# Altium schematic symbol library ESender_SCH_Lib.SchLib: 87 symbols (part 2 of 2)
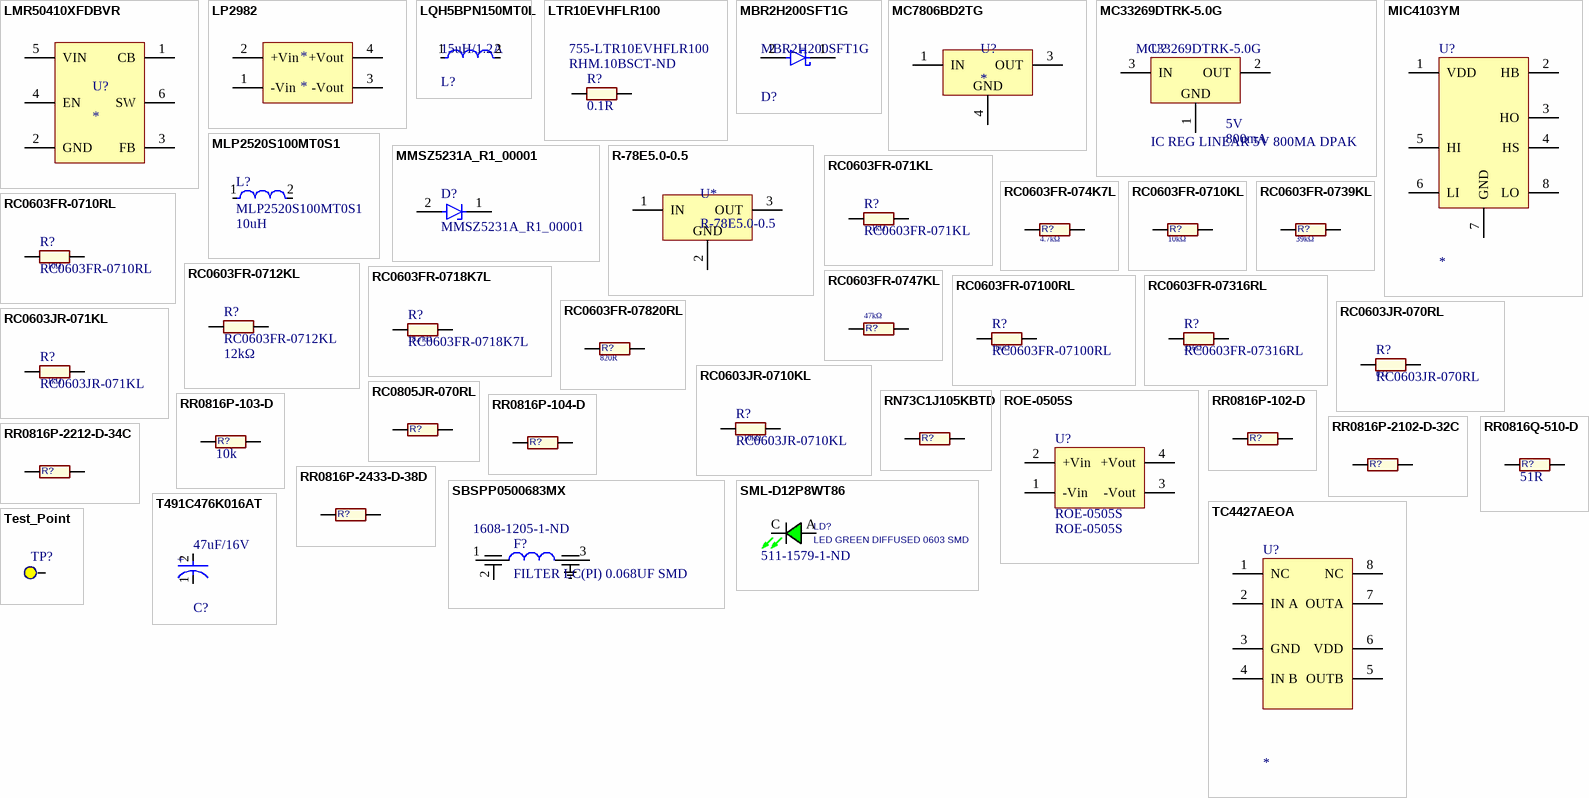
[diagram p3: symbols LMR50410XFDBVR to Test_Point]

## RC0603FR-0710KL
designator R?  Resistance: 10kΩ  (hidden comment: RC0603FR-0710KL)
10 kOhms ±1% 0.1W, 1/10W Chip Resistor 0603 (1608 Metric) Moisture Resistant Thick Film; Manufacturer: Yageo; Max Power Dissipation: 100mW; Temperature Coefficient: 100ppm/°C; Voltage Rating: 75V; Voltage Rating (DC): 50V; Case Code (Imperial): 0603; Case Code (Metric): 1608; Case/Package: 0603; Category: Chip SMD Resistors; Construction: Rectangular; Depth: 0.8mm; Features: Moisture Resistant; Height: 0.45mm; Lead Free: Lead Free; Lead Pitch: 0.3mm; Length: 1.6mm; Max Operating Temperature: 155°C; Military Standard: Not; Min Operating Temperature: -55°C; Number of Pins: 2; Number of Terminations: 2; Packaging: Tape and Reel; Power Rating: 100mW; REACH SVHC: Unknown; Resistance Tolerance: 1%; Resistor Type: Thick Film; RoHS Compliant: Yes; Series: RC; Size Code: 0603; Termination: SMD/SMT; Tolerance: 1%; Weight: 7.1E-05oz; Width: 0.8mm; Supplier 1: Digi-Key; Supplier Part Number 1: 311-10.0KHRCT-ND; Supplier Packaging 1: Cut Tape; Supplier Unit Price 1: $0.10; Supplier Location 1: US; Supplier 2: Mouser; Supplier Part Number 2: 603-RC0603FR-0710KL; Supplier Packaging 2: Tape & Reel; Supplier Unit Price 2: $0.10; Supplier Location 2: US; Manufacturer Part Number: RC0603FR-0710KL
footprint RES 0603_1608 (Chip Resistor, 2-Leads, Body 1.60x0.80mm, IPC Medium Density)
pins: 1, 2

## RC0603FR-0710RL
designator R?  Resistance: 10Ω
10 Ohms ±1% 0.1W, 1/10W Chip Resistor 0603 (1608 Metric) Moisture Resistant Thick Film; Manufacturer: Yageo; Max Power Dissipation: 100mW; Temperature Coefficient: 200ppm/°C; Voltage Rating: 50V; Case Code (Imperial): 0603; Case Code (Metric): 1608; Case/Package: 0603; Category: Chip SMD Resistors; Construction: Rectangular; Contact Plating: Tin,Matte; Depth: 0.8mm; Features: Moisture Resistant; Height: 0.45mm; Lead Free: Lead Free; Length: 1.6mm; Max Operating Temperature: 155°C; Military Standard: Not; Min Operating Temperature: -55°C; Number of Terminations: 2; Packaging: Tape and Reel; Power Rating: 100mW; Radiation Hardening: No; REACH SVHC: No SVHC; Resistance Tolerance: 1%; Resistor Type: Thick Film; RoHS Compliant: Yes; Series: RC; Size Code: 0603; Technology: THICK FILM; Termination: SMD/SMT; Tolerance: 1%; Supplier 1: Mouser; Supplier Part Number 1: 603-RC0603FR-0710RL; Supplier Packaging 1: Tape & Reel; Supplier Unit Price 1: $0.10; Supplier Location 1: US; Supplier 2: Farnell; Supplier Part Number 2: 9238247; Supplier Packaging 2: Cut Tape; Supplier Unit Price 2: £0.032; Supplier Location 2: GB; Manufacturer Part Number: RC0603FR-0710RL; Number of Pins: 2; Voltage Rating (DC): 50V; Width: 0.8mm
footprint RES 0603_1608 (Chip Resistor, 2-Leads, Body 1.60x0.80mm, IPC Medium Density)
pins: 1, 2

## RC0603FR-0712KL
designator R?  Resistance: 12kΩ
12 kOhms ±1% 0.1W, 1/10W Chip Resistor 0603 (1608 Metric) Moisture Resistant Thick Film; Manufacturer: Yageo; Max Power Dissipation: 100mW; Temperature Coefficient: 100ppm/°C; Voltage Rating: 50V; Width: 0.8mm; Case Code (Imperial): 0603; Case Code (Metric): 1608; Case/Package: 0603; Category: Chip SMD Resistors; Construction: Rectangular; Depth: 0.8mm; Features: Moisture Resistant; Height: 0.022inch; Lead Free: Lead Free; Length: 1.6mm; Max Operating Temperature: 155°C; Military Standard: Not; Min Operating Temperature: -55°C; Number of Pins: 2; Number of Terminations: 2; Package Quantity: 1; Packaging: Tape and Reel; Power Rating: 100mW; REACH SVHC: No SVHC; Resistance Tolerance: 1%; Resistor Type: Thick Film; RoHS Compliant: Yes; Series: RC; Size Code: 0603; Termination: SMD/SMT; Tolerance: 1%; Voltage Rating (DC): 50V; Supplier 1: Digi-Key; Supplier Part Number 1: 311-12.0KHRCT-ND; Supplier Packaging 1: Cut Tape; Supplier Unit Price 1: $0.10; Supplier Location 1: US; Supplier 2: Farnell; Supplier Part Number 2: 9238611; Supplier Packaging 2: Cut Tape; Supplier Unit Price 2: £0.013; Supplier Location 2: GB; Manufacturer Part Number: RC0603FR-0712KL
footprint RES 0603_1608 (Chip Resistor, 2-Leads, Body 1.60x0.80mm, IPC Medium Density)
pins: 1, 2

## RC0603FR-0718K7L
designator R?  Resistance: 18.7kΩ
18.7 kOhms ±1% 0.1W, 1/10W Chip Resistor 0603 (1608 Metric) Moisture Resistant Thick Film; Manufacturer: Yageo; Max Power Dissipation: 100mW; Temperature Coefficient: 100ppm/°C; Voltage Rating: 50V; Series: RC; Case Code (Imperial): 0603; Case Code (Metric): 1608; Case/Package: 0603; Category: Chip SMD Resistors; Construction: Rectangular; Depth: 0.8mm; Features: Moisture Resistant; Height: 0.45mm; Lead Free: Lead Free; Length: 1.6mm; Max Operating Temperature: 155°C; Military Standard: Not; Min Operating Temperature: -55°C; Number of Terminations: 2; Package Quantity: 5000; Packaging: Tape and Reel; Power Rating: 100mW; Resistor Type: Thick Film; RoHS Compliant: Yes; Size Code: 0603; Termination: SMD/SMT; Tolerance: 1%; Voltage Rating (DC): 50V; Width: 0.8mm; Supplier 1: Digi-Key; Supplier Part Number 1: 311-18.7KHRCT-ND; Supplier Packaging 1: Cut Tape; Supplier Unit Price 1: $0.10; Supplier Location 1: US; Manufacturer Part Number: RC0603FR-0718K7L
footprint RES 0603_1608 (Chip Resistor, 2-Leads, Body 1.60x0.80mm, IPC Medium Density)
pins: 1, 2

## RC0603FR-0739KL
designator R?  Resistance: 39kΩ  (hidden comment: RC0603FR-0739KL)
39 kOhms ±1% 0.1W, 1/10W Chip Resistor 0603 (1608 Metric) Moisture Resistant Thick Film; Manufacturer: Yageo; Voltage Rating (DC): 50V; Max Power Dissipation: 100mW; Temperature Coefficient: 100ppm/°C; Case Code (Imperial): 0603; Case Code (Metric): 1608; Case/Package: 0603; Category: Chip SMD Resistors; Construction: Rectangular; Depth: 0.8mm; Features: Moisture Resistant; Height: 0.45mm; Lead Free: Lead Free; Length: 1.6mm; Max Operating Temperature: 155°C; Military Standard: Not; Min Operating Temperature: -55°C; Number of Pins: 2; Number of Terminations: 2; Packaging: Tape and Reel; Power Rating: 100mW; REACH SVHC: No SVHC; Resistance Tolerance: 1%; Resistor Type: Thick Film; RoHS Compliant: Yes; Series: RC; Size Code: 0603; Technology: THICK FILM; Termination: SMD/SMT; Tolerance: 1%; Voltage Rating: 50V; Width: 0.8mm; Supplier 1: Digi-Key; Supplier Part Number 1: 311-39.0KHRCT-ND; Supplier Packaging 1: Cut Tape; Supplier Unit Price 1: $0.10; Supplier Location 1: US; Supplier 2: Mouser; Supplier Part Number 2: 603-RC0603FR-0739KL; Supplier Packaging 2: Tape & Reel; Supplier Unit Price 2: $0.10; Supplier Location 2: US; Supplier 3: Farnell; Supplier Part Number 3: 9238670; Supplier Packaging 3: Cut Tape; Supplier Unit Price 3: £0.013; Supplier Location 3: GB; Manufacturer Part Number: RC0603FR-0739KL
footprint RES 0603_1608 (Chip Resistor, 2-Leads, Body 1.60x0.80mm, IPC Medium Density)
pins: 1, 2

## RC0603FR-0747KL
designator R?  Resistance: 47kΩ  (hidden comment: RC0603FR-0747KL)
47 kOhms ±1% 0.1W, 1/10W Chip Resistor 0603 (1608 Metric) Moisture Resistant Thick Film; Manufacturer: Yageo; Voltage Rating (DC): 50V; Max Power Dissipation: 100mW; Temperature Coefficient: 100ppm/°C; Case Code (Imperial): 0603; Case Code (Metric): 1608; Case/Package: 0603; Category: Chip SMD Resistors; Construction: Rectangular; Depth: 0.8mm; Features: Moisture Resistant; Height: 0.022inch; Lead Free: Lead Free; Length: 1.6mm; Max Operating Temperature: 155°C; Military Standard: Not; Min Operating Temperature: -55°C; Number of Pins: 2; Number of Terminations: 2; Package Quantity: 1; Packaging: Tape and Reel; Power Rating: 100mW; REACH SVHC: Unknown; Resistance Tolerance: 1%; Resistor Type: Thick Film; RoHS Compliant: Yes; Series: RC; Size Code: 0603; Technology: THICK FILM; Termination: SMD/SMT; Tolerance: 1%; Voltage Rating: 50V; Width: 0.031inch; Supplier 1: Digi-Key; Supplier Part Number 1: 311-47.0KHRCT-ND; Supplier Packaging 1: Cut Tape; Supplier Unit Price 1: $0.10; Supplier Location 1: US; Supplier 2: Mouser; Supplier Part Number 2: 603-RC0603FR-0747KL; Supplier Packaging 2: Tape & Reel; Supplier Unit Price 2: $0.10; Supplier Location 2: US; Supplier 3: Farnell; Supplier Part Number 3: 9238689; Supplier Packaging 3: Cut Tape; Supplier Unit Price 3: £0.013; Supplier Location 3: GB; Manufacturer Part Number: RC0603FR-0747KL
footprint RES 0603_1608 (Chip Resistor, 2-Leads, Body 1.60x0.80mm, IPC Medium Density)
pins: 1, 2

## RC0603FR-07100RL
designator R?  Resistance: 100Ω
100 Ohms ±1% 0.1W, 1/10W Chip Resistor 0603 (1608 Metric) Moisture Resistant Thick Film; Manufacturer: Yageo; Max Power Dissipation: 100mW; Temperature Coefficient: 100ppm/°C; Voltage Rating: 50V; Features: Moisture Resistant; Case Code (Imperial): 0603; Case Code (Metric): 1608; Case/Package: 0603; Category: Chip SMD Resistors; Construction: Rectangular; Depth: 0.8mm; Height: 0.45mm; Lead Free: Lead Free; Length: 1.6mm; Max Operating Temperature: 155°C; Military Standard: Not; Min Operating Temperature: -55°C; Number of Pins: 2; Number of Terminations: 2; Packaging: Tape and Reel; Power Rating: 100mW; REACH SVHC: Unknown; Resistance Tolerance: 1%; Resistor Type: Thick Film; RoHS Compliant: Yes; Series: RC; Size Code: 0603; Technology: THICK FILM; Termination: SMD/SMT; Tolerance: 1%; Voltage Rating (DC): 50V; Width: 0.8mm; Manufacturer Part Number: RC0603FR-07100RL; Supplier 1: Digi-Key; Supplier Part Number 1: 311-100HRCT-ND; Supplier 2: Mouser; Supplier Part Number 2: 603-RC0603FR-07100RL; Supplier 3: Farnell; Supplier Part Number 3: 9238360
footprint RES 0603_1608 (Chip Resistor, 2-Leads, Body 1.60x0.80mm, IPC Medium Density)
pins: 1, 2

## RC0603FR-07316RL
designator R?  Resistance: 316Ω
316 Ohms ±1% 0.1W, 1/10W Chip Resistor 0603 (1608 Metric) Moisture Resistant Thick Film; Manufacturer: Yageo; Max Power Dissipation: 100mW; Temperature Coefficient: 100ppm/°C; Voltage Rating: 50V; Contact Plating: Tin,Matte; Case Code (Imperial): 0603; Case Code (Metric): 1608; Case/Package: 0603; Category: Chip SMD Resistors; Construction: Rectangular; Depth: 0.8mm; Features: Moisture Resistant; Height: 0.022inch; Lead Free: Lead Free; Length: 1.6mm; Max Operating Temperature: 155°C; Military Standard: Not; Min Operating Temperature: -55°C; Number of Terminations: 2; Package Quantity: 5000; Packaging: Tape and Reel; Power Rating: 100mW; Resistor Type: Thick Film; RoHS Compliant: Yes; Series: RC; Size Code: 0603; Termination: SMD/SMT; Tolerance: 1%; Voltage Rating (DC): 50V; Width: 0.8mm; Manufacturer Part Number: RC0603FR-07316RL; Supplier 1: Digi-Key; Supplier Part Number 1: 311-316HRCT-ND; Supplier 2: Mouser; Supplier Part Number 2: 603-RC0603FR-07316RL
footprint RES 0603_1608 (Chip Resistor, 2-Leads, Body 1.60x0.80mm, IPC Medium Density)
pins: 1, 2

## RC0603FR-07820RL
designator R?  Resistance: 820R  (hidden comment: RC0603FR-07820RL)
820 Ohms ±1% 0.1W, 1/10W Chip Resistor 0603 (1608 Metric) Moisture Resistant Thick Film; Manufacturer: Yageo; Max Power Dissipation: 100mW; Temperature Coefficient: 100ppm/°C; Voltage Rating: 75V; Voltage Rating (DC): 50V; Supplier 2: Mouser; Case Code (Imperial): 0603; Case Code (Metric): 1608; Case/Package: 0603; Category: Chip SMD Resistors; Construction: Rectangular; Depth: 0.8mm; Features: Moisture Resistant; Height: 0.45mm; Lead Free: Lead Free; Length: 1.6mm; Max Operating Temperature: 155°C; Military Standard: Not; Min Operating Temperature: -55°C; Number of Pins: 2; Number of Terminations: 2; Packaging: Tape and Reel; Power Rating: 100mW; REACH SVHC: Unknown; Resistance Tolerance: 1%; Resistor Type: Thick Film; RoHS Compliant: Yes; Series: RC; Size Code: 0603; Technology: THICK FILM; Termination: SMD/SMT; Tolerance: 1%; Weight: 7.1E-05oz; Width: 0.8mm; Supplier 1: Digi-Key; Supplier Part Number 1: 311-820HRCT-ND; Supplier Packaging 1: Cut Tape; Supplier Unit Price 1: $0.10; Supplier Location 1: US; Supplier Part Number 2: 603-RC0603FR-07820RL; Supplier Packaging 2: Tape & Reel; Supplier Unit Price 2: $0.10; Supplier Location 2: US; Supplier 3: Farnell; Supplier Part Number 3: 9238476; Supplier Packaging 3: Cut Tape; Supplier Unit Price 3: £0.013; Supplier Location 3: GB; Manufacturer Part Number: RC0603FR-07820RL
footprint RES 0603_1608 (Chip Resistor, 2-Leads, Body 1.60x0.80mm, IPC Medium Density)
pins: 1, 2

## RC0603JR-070RL
designator R?  Resistance: 0 Ω
0 Ohms Jumper 0.1W, 1/10W Chip Resistor 0603 (1608 Metric) Moisture Resistant Thick Film; Manufacturer: Yageo; Max Power Dissipation: 100mW; Resistance Tolerance: 5%; Temperature Coefficient: 200ppm/°C; Tolerance: 1%; Voltage Rating: 50V; Features: Moisture Resistant; Case Code (Imperial): 0603; Case Code (Metric): 1608; Case/Package: 0603; Category: Chip SMD Resistors; Construction: Rectangular; Contact Plating: Tin,Matte; Depth: 0.8mm; Height: 0.45mm; Lead Free: Lead Free; Length: 1.6mm; Max Operating Temperature: 155°C; Military Standard: Not; Min Operating Temperature: -55°C; Number of Pins: 2; Number of Terminations: 2; Package Quantity: 5000; Packaging: Tape and Reel; Power Rating: 100mW; Radiation Hardening: No; REACH SVHC: No SVHC; Resistor Type: Thick Film; RoHS Compliant: Yes; Series: RC; Size Code: 0603; Technology: THICK FILM; Termination: SMD/SMT; Voltage Rating (DC): 50V; Width: 0.8mm; Manufacturer Part Number: RC0603JR-070RL; Supplier 1: Digi-Key; Supplier Part Number 1: 311-0.0GRCT-ND; Supplier 2: Mouser; Supplier Part Number 2: 603-RC0603JR-070RL; Supplier 3: Farnell; Supplier Part Number 3: 2421846
footprint RES 0603_1608 (Chip Resistor, 2-Leads, Body 1.60x0.80mm, IPC Medium Density)
pins: 1, 2

## RC0603JR-071KL
designator R?  Resistance: 1kΩ
1 kOhms ±5% 0.1W, 1/10W Chip Resistor 0603 (1608 Metric) Moisture Resistant Thick Film; Manufacturer: Yageo; Body Length: 1.6mm; Power Rating: 100mW; Temperature Coefficient: 100ppm/°C; Voltage Rating: 50V; Number of Pins: 2; Case Code (Imperial): 0603; Case Code (Metric): 1608; Case/Package: 0603; Category: Chip SMD Resistors; Construction: Rectangular; Contact Plating: Tin,Matte; Depth: 0.8mm; Height: 0.45mm; Lead Free: Lead Free; Length: 1.6mm; Max Operating Temperature: 155°C; Military Standard: Not; Min Operating Temperature: -55°C; Package Quantity: 5000; Packaging: Tape and Reel; Radiation Hardening: No; REACH SVHC: Unknown; Resistance Tolerance: 5%; Resistor Type: Thick Film; RoHS Compliant: Yes; Series: RC; Size Code: 0603; Termination: SMD/SMT; Tolerance: 5%; Voltage Rating (DC): 50V; Width: 0.8mm; Supplier 1: Digi-Key; Supplier Part Number 1: 311-1.0KGRCT-ND; Supplier 2: Mouser; Supplier Part Number 2: 603-RC0603JR-071KL; Supplier 3: Farnell; Supplier Part Number 3: 9233385; Manufacturer Part Number: RC0603JR-071KL
footprint RES 0603_1608 (Chip Resistor, 2-Leads, Body 1.60x0.80mm, IPC Medium Density)
pins: 1, 2

## RC0603JR-0710KL
designator R?  Resistance: 10kΩ
10 kOhms ±5% 0.1W, 1/10W Chip Resistor 0603 (1608 Metric) Moisture Resistant Thick Film; Manufacturer: Yageo; Max Power Dissipation: 100mW; Temperature Coefficient: 100ppm/°C; Voltage Rating: 50V; Min Operating Temperature: -55°C; Case Code (Imperial): 0603; Case Code (Metric): 1608; Case/Package: 0603; Category: Chip SMD Resistors; Contact Plating: Tin,Matte; Depth: 0.8mm; Features: Moisture Resistant; Height - Seated (Max): 0.022inch; Lead Free: Lead Free; Length: 0.063inch; Max Operating Temperature: 155°C; Military Standard: Not; Number of Pins: 2; Number of Terminations: 2; Packaging: Tape and Reel; Power Rating: 100mW; Radiation Hardening: No; REACH SVHC: Unknown; Resistor Type: Thick Film; RoHS Compliant: Yes; Termination: SMD/SMT; Tolerance: 5%; Voltage Rating (DC): 50V; Width: 0.031inch; Supplier 1: Digi-Key; Supplier Part Number 1: 311-10KGRCT-ND; Supplier Packaging 1: Cut Tape; Supplier Unit Price 1: $0.10; Supplier Location 1: US; Supplier 2: Mouser; Supplier Part Number 2: 603-RC0603JR-0710KL; Supplier Packaging 2: Tape & Reel; Supplier Unit Price 2: $0.10; Supplier Location 2: US; Manufacturer Part Number: RC0603JR-0710KL
footprint RES 0603_1608 (Chip Resistor, 2-Leads, Body 1.60x0.80mm, IPC Medium Density)
pins: 1, 2

## RC0805JR-070RL
designator R?, comment 0R  (value not drawn)
0 Ohms Jumper 0.125W, 1/8W Chip Resistor 0805 (2012 Metric) Moisture Resistant Thick Film
footprint RES-0805 (SMD, 0805)
pins: 1, 2

## RN73C1J105KBTD
designator R?, comment 105k  (value not drawn)
105 kOhms ±0.1% 0.063W, 1/16W Chip Resistor 0603 (1608 Metric)  Thin Film; Manufacturer: TE Connectivity; Manufacturer Part Number: RN73C1J105KBTDF; Max Power Dissipation: 63mW; Number of Resistors: 1; Resistance: 105kR; Temperature Coefficient: 10ppm/°C; Voltage Rating: 50V; Case Code (Imperial): 0603; Case Code (Metric): 1608; Case/Package: 0603; Category: Chip SMD Resistors; ELV: Compliant; Height: 0.45mm; Length: 1.55mm; Max Operating Temperature: 155°C; Min Operating Temperature: -55°C; Mount: Surface Mount; Number of Terminations: 2; Package Quantity: 1000; Packaging: Tape and Reel; Power Rating: 63mW; Resistance Tolerance: 0.1%; Resistor Type: Thin Film; RoHS Compliant: Yes; Series: RN73, Holsworthy; Termination: Solder; Tolerance: 0.1%; Voltage Rating (DC): 50V; Width: 0.8mm; ComponentLink1URL: https://www.te.com/commerce/DocumentDelivery/DDEController?Action=srchrtrv&amp;DocNm=1773270&amp;DocType=DS&amp;DocLang=English&src-supplier=Digi-Key; ComponentLink1Description: https://www.te.com/commerce/DocumentDelivery/DDEController?Action=srchrtrv&amp;DocNm=1773270&amp;DocType=DS&amp;DocLang=English&src-supplier=Digi-Key
footprint R-0603 (Resistor  0603)
pins: 1, 2

## ROE-0505S
designator U?
Isolated Module DC DC Converter 1 Output 5V 200mA 4.5V - 5.5V Input; Manufacturer: Recom; Isolation Voltage: 1kV; Efficiency: 75%; Max Output Power: 1W; Number of Outputs: 1; Case/Package: SIP; Category: Voltage Regulators - Switching; Current - Output 1: 200mA; Depth: 6mm; Height: 10mm; Isolation: Isolated; Lead Free: Lead Free; Length: 11.5mm; Max Input Voltage: 5.5V; Max Input Voltage (DC): 5.5V; Max Operating Temperature: 85°C; Max Output Current: 200mA; Max Output Voltage: 5V; Max Power Dissipation: 1W; Min Input Voltage: 4.5V; Min Input Voltage (DC): 4.5V; Min Operating Temperature: -40°C; Mount: Through Hole; Nominal Input Voltage: 5V; Nominal Output Voltage: 5V; Number of Pins: 4; Output Current: 200mA; Output Power: 1W; Output Voltage: 5V; Package Quantity: 42; Packaging: Rail/Tube; Power Rating: 1W; REACH SVHC: No SVHC; RoHS Compliant: Yes; Series: ROE; Voltage - Output 1: 5V; Weight: 1.4g; Width: 6mm; Supplier 1: Mouser; Supplier Part Number 1: 919-ROE-0505S; Supplier Packaging 1: Tube; Supplier Unit Price 1: $3.12; Supplier Location 1: US; Supplier 2: Farnell; Supplier Part Number 2: 2218597; Supplier Packaging 2: Each; Supplier Unit Price 2: £3.01; Supplier Location 2: GB; Manufacturer Part Number: ROE-0505S
footprint ROE-0505S-MFG
pins: 1 -Vin (power), 2 +Vin (power), 3 -Vout (power), 4 +Vout (power)

## RR0816P-102-D
designator R?, comment 1k  (value not drawn)
1 kOhms ±0.5% 0.063W, 1/16W Chip Resistor 0603 (1608 Metric)  Thin Film; Manufacturer: Susumu; Manufacturer Part Number: RR0816P-102-D; Max Power Dissipation: 63mW; Resistance: 1kR; Temperature Coefficient: 25ppm/°C; Voltage Rating: 75V; Width: 0.031inch; Case Code (Imperial): 0603; Case Code (Metric): 1608; Case/Package: 0603; Category: Chip SMD Resistors; Depth: 0.8mm; Height: 0.4mm; Lead Free: Lead Free; Length: 1.6mm; Max Operating Temperature: 125°C; Min Operating Temperature: -55°C; Number of Pins: 2; Number of Terminations: 2; Package Quantity: 1; Packaging: Tape and Reel; Power Rating: 63mW; REACH SVHC: Unknown; Resistance Tolerance: 0.5%; Resistor Type: Thin Film; RoHS Compliant: Yes; Series: RR; Size Code: 0603; Technology: THIN FILM; Termination: SMD/SMT; Tolerance: 0.5%; Voltage Rating (DC): 75V; ComponentLink1URL: https://datasheet.ciiva.com/2487/rr-data-sheet-2487025.pdf?src-supplier=Digi-Key; ComponentLink1Description: https://datasheet.ciiva.com/2487/rr-data-sheet-2487025.pdf?src-supplier=Digi-Key
footprint R-0603 (Resistor  0603)
pins: 1, 2

## RR0816P-103-D
designator R?, comment 10k
10 kOhms ±0.5% 0.063W, 1/16W Chip Resistor 0603 (1608 Metric)  Thin Film; Manufacturer: Susumu; Manufacturer Part Number: RR0816P-103-D; Max Power Dissipation: 63mW; Resistance: 10kR; Temperature Coefficient: 25ppm/°C; Voltage Rating: 75V; Width: 0.8mm; Case Code (Imperial): 0603; Case Code (Metric): 1608; Case/Package: 0603; Category: Chip SMD Resistors; Depth: 0.8mm; Height: 0.4mm; Lead Free: Lead Free; Length: 1.6mm; Max Operating Temperature: 125°C; Min Operating Temperature: -55°C; Number of Pins: 2; Number of Terminations: 2; Package Quantity: 1; Packaging: Tape and Reel; Power Rating: 63mW; REACH SVHC: Unknown; Resistance Tolerance: 0.5%; Resistor Type: Thin Film; RoHS Compliant: Yes; Series: RR; Size Code: 0603; Technology: THIN FILM; Termination: SMD/SMT; Tolerance: 0.5%; Voltage Rating (DC): 75V; Weight: 7.1E-05oz
footprint R-0603 (Resistor  0603)
pins: 1, 2

## RR0816P-104-D
designator R?, comment 100k  (value not drawn)
100 kOhms ±0.5% 0.063W, 1/16W Chip Resistor 0603 (1608 Metric)  Thin Film; Manufacturer: Susumu; Manufacturer Part Number: RR0816P-104-D; Working Voltage: 75V; Max Power Dissipation: 63mW; Resistance: 100kR; Temperature Coefficient: 25ppm/°C; ComponentLink1URL: https://datasheet.ciiva.com/2487/rr-data-sheet-2487067.pdf?src-supplier=Digi-Key; ComponentLink1Description: https://datasheet.ciiva.com/2487/rr-data-sheet-2487067.pdf?src-supplier=Digi-Key; Case Code (Imperial): 0603; Case Code (Metric): 1608; Case/Package: 0603; Category: Chip SMD Resistors; Depth: 0.8mm; Height: 0.4mm; Lead Free: Lead Free; Length: 1.6mm; Max Operating Temperature: 125°C; Min Operating Temperature: -55°C; Number of Pins: 2; Number of Terminations: 2; Package Quantity: 1; Packaging: Tape and Reel; Power Rating: 63mW; REACH SVHC: Unknown; Resistance Tolerance: 0.5%; Resistor Type: Thin Film; RoHS Compliant: Yes; Series: RR; Technology: THIN FILM; Termination: SMD/SMT; Tolerance: 0.5%; Voltage Rating: 75V; Voltage Rating (DC): 75V; Width: 0.8mm
footprint R-0603 (Resistor  0603)
pins: 1, 2

## RR0816P-2102-D-32C
designator R?, comment 21k  (value not drawn)
21 kOhms ±0.5% 0.063W, 1/16W Chip Resistor 0603 (1608 Metric)  Thin Film; Manufacturer: Susumu; Manufacturer Part Number: RR0816P-2102-D-32C; Max Power Dissipation: 63mW; Power Rating: 62.5mW; Resistance: 21kR; Temperature Coefficient: 25ppm/°C; Voltage Rating: 75V; Case Code (Imperial): 0603; Case Code (Metric): 1608; Case/Package: 0603; Category: Chip SMD Resistors; Height: 0.02inch; Lead Free: Lead Free; Length: 0.063inch; Max Operating Temperature: 125°C; Min Operating Temperature: -55°C; Number of Terminations: 2; Package Quantity: 1; Packaging: Tape and Reel; Resistor Type: Thin Film; RoHS Compliant: Yes; Series: RR; Size Code: 0603; Termination: SMD/SMT; Tolerance: 0.5%; Voltage Rating (DC): 75V; Width: 0.8mm; ComponentLink1URL: https://datasheet.ciiva.com/2487/rr-data-sheet-2487553.pdf?src-supplier=Digi-Key; ComponentLink1Description: https://datasheet.ciiva.com/2487/rr-data-sheet-2487553.pdf?src-supplier=Digi-Key
footprint R-0603 (Resistor  0603)
pins: 1, 2

## RR0816P-2212-D-34C
designator R?, comment 22.1k  (value not drawn)
22.1 kOhms ±0.5% 0.063W, 1/16W Chip Resistor 0603 (1608 Metric)  Thin Film; Manufacturer: Susumu; Manufacturer Part Number: RR0816P-2212-D-34C; Max Power Dissipation: 63mW; Power Rating: 62.5mW; Resistance: 22.1kR; Temperature Coefficient: 25ppm/°C; Voltage Rating: 75V; Case Code (Imperial): 0603; Case Code (Metric): 1608; Case/Package: 0603; Category: Chip SMD Resistors; Height: 0.02inch; Height - Seated (Max): 0.02inch; Lead Free: Lead Free; Length: 0.063inch; Max Operating Temperature: 125°C; Min Operating Temperature: -55°C; Number of Terminations: 2; Package Quantity: 1; Packaging: Tape and Reel; Resistor Type: Thin Film; RoHS Compliant: Yes; Series: RR; Size Code: 0603; Termination: SMD/SMT; Tolerance: 0.5%; Voltage Rating (DC): 75V; Width: 0.032inch; ComponentLink1URL: https://datasheet.ciiva.com/2497/rr-data-sheet-2497842.pdf?src-supplier=Digi-Key; ComponentLink1Description: https://datasheet.ciiva.com/2497/rr-data-sheet-2497842.pdf?src-supplier=Digi-Key
footprint R-0603 (Resistor  0603)
pins: 1, 2

## RR0816P-2433-D-38D
designator R?, comment 243k  (value not drawn)
243 kOhms ±0.5% 0.063W, 1/16W Chip Resistor 0603 (1608 Metric)  Thin Film; Manufacturer: Susumu; Manufacturer Part Number: RR0816P-2433-D-38D; Max Power Dissipation: 63mW; Power Rating: 62.5mW; Resistance: 243kR; Temperature Coefficient: 25ppm/°C; Voltage Rating: 75V; Width: 0.8mm; Case Code (Imperial): 0603; Case Code (Metric): 1608; Case/Package: 0603; Category: Chip SMD Resistors; Height: 0.02inch; Lead Free: Lead Free; Length: 0.063inch; Max Operating Temperature: 125°C; Min Operating Temperature: -55°C; Number of Terminations: 2; Package Quantity: 1; Packaging: Tape and Reel; Resistor Type: Thin Film; RoHS Compliant: Yes; Series: RR; Termination: SMD/SMT; Tolerance: 0.5%; Voltage Rating (DC): 75V; Weight: 7.1E-05oz; ComponentLink1URL: https://datasheet.ciiva.com/2498/rr-data-sheet-2498074.pdf?src-supplier=Digi-Key; ComponentLink1Description: https://datasheet.ciiva.com/2498/rr-data-sheet-2498074.pdf?src-supplier=Digi-Key
footprint R-0603 (Resistor  0603)
pins: 1, 2

## RR0816Q-510-D
designator R?, comment 51R
51 Ohms ±0.5% 0.063W, 1/16W Chip Resistor 0603 (1608 Metric)  Thin Film; Manufacturer: Susumu; Manufacturer Part Number: RR0816Q-510-D; Max Power Dissipation: 63mW; Power Rating: 62.5mW; Temperature Coefficient: 50ppm/°C; Voltage Rating: 75V; ComponentLink1URL: https://datasheet.ciiva.com/2498/rr-data-sheet-2498074.pdf?src-supplier=Digi-Key; ComponentLink1Description: https://datasheet.ciiva.com/2498/rr-data-sheet-2498074.pdf?src-supplier=Digi-Key; Width: 0.8mm; Case Code (Imperial): 0603; Case Code (Metric): 1608; Case/Package: 0603; Category: Chip SMD Resistors; Depth: 0.8mm; Height: 0.4mm; Lead Free: Lead Free; Length: 1.6mm; Max Operating Temperature: 125°C; Min Operating Temperature: -55°C; Mount: Surface Mount; Number of Terminations: 2; Package Quantity: 1; Packaging: Tape and Reel; Resistance: 51R; Resistor Type: Thin Film; RoHS Compliant: Yes; Series: RR; Size Code: 0603; Technology: THIN FILM; Termination: SMD/SMT; Tolerance: 0.5%; Voltage Rating (DC): 75V; ComponentLink2URL: https://datasheet.ciiva.com/2498/rr-data-sheet-2498317.pdf?src-supplier=Digi-Key; ComponentLink2Description: https://datasheet.ciiva.com/2498/rr-data-sheet-2498317.pdf?src-supplier=Digi-Key
footprint R-0603 (Resistor  0603)
pins: 1, 2

## SBSPP0500683MX
designator F?, comment FILTER LC(PI) 0.068UF SMD  Supplier Part Number 1: 1608-1205-1-ND
LC (Pi) EMI Filter 3rd Order Low Pass 1 Channel C = 0.068µF 1 A 1206 (3216 Metric), 3 PC Pad; Manufacturer: Knowles Syfer; Manufacturer Part Number: SBSPP0500683MXT; Capacitance: 68nF; Current Rating: 1A; DC Resistance (DCR): 500mR; Tolerance: 20%; Voltage Rating (DC): 50V; Case/Package: 1206; Category: Capacitors; Circuit Type: Filter; Height: 1.6mm; Length: 3.2mm; Max DC Current: 1A; Max Operating Temperature: 125°C; Min Operating Temperature: -55°C; Package Quantity: 1500; Packaging: Tape and Reel; Termination: SMD/SMT; Width: 1.6mm; ComponentLink1URL: https://www.knowlescapacitors.com/getattachment/d832ef33-ec0f-45c7-8006-dfb1282e2264/SBSP-SBSPP-1A.aspx?src-supplier=Digi-Key; ComponentLink1Description: https://www.knowlescapacitors.com/getattachment/d832ef33-ec0f-45c7-8006-dfb1282e2264/SBSP-SBSPP-1A.aspx?src-supplier=Digi-Key; Supplier 1: Digi-Key
footprint Filter_SBSPP0500
pins: 1, 2, 3

## SML-D12P8WT86
designator LD?, comment LED GREEN DIFFUSED 0603 SMD  Supplier Part Number 2: 511-1579-1-ND
Green 560nm LED Indication - Discrete 2.2V 0603 (1608 Metric); Manufacturer 1: Osram Opto Semiconductor; Manufacturer Part Number 1: LG Q971-KN-1; Manufacturer: Rohm; Manufacturer Part Number: SML-D12P8WT86; Category 1: Standard LEDs - SMD; Description 1: Standard LEDs - SMD Green, 570nm 10mcd, 20mA; Forward Current: 20mA; LED Size: 1.6 mm x 0.8 mm x 0.3 mm; Luminous Intensity: 6.3mcd; Viewing Angle: 160°; Wavelength/Colour Temperature: 570 nm; Lens Color: White; Lens Style: Rectangular,Diffused,Colorless; Number of LEDs: 1; Supplier 1: Mouser; Supplier Part Number 1: 720-LGQ971-KN-1; RoHS 1: RoHS Compliant; Illumination Colour: Green; Package/Case: 0603; Packaging: Tape and Reel; Forward Voltage: 2.2V; Maximum Operating Temperature: + 85 C; Minimum Operating Temperature: - 40 C; Product Category: Standard LED - Surface Mount; Standard Pack Qty: 16000; RoHS - Mouser: Y; Minimum Order Quantity: 1; Reeling: True; ComponentLink1URL: http://catalog.osram-os.com/catalogue/catalogue.do;jsessionid=B82A462BB9500FF5EC02EA555C13E990?act=downloadFile&favOid=0200000600005069000100b6; ComponentLink1Description: http://catalog.osram-os.com/catalogue/catalogue.do;jsessionid=B82A462BB9500FF5EC02EA555C13E990?act=downloadFile&favOid=0200000600005069000100b6; Color: Green; Case Code (Metric): 1608; Case/Package: 0603; Category: LEDs; Dominant Wavelength: 560nm; Height: 0.65mm; Illumination Color: Green; Lead Free: Lead Free; Length: 1.6mm; Lens Transparency: Diffused; Max Operating Temperature: 85°C; Min Operating Temperature: -40°C; Mount: Surface Mount; Number of Pins: 2; Package Quantity: 1; Radiation Hardening: No; REACH SVHC: Unknown; RoHS Compliant: Yes; Series: EXCELED™; Test Current: 20mA; Wavelength: 560nm; Width: 0.8mm; Supplier 2: Digi-Key; Supplier 3: Mouser; Supplier Part Number 3: 755-SML-D12P8WT86
footprint FP-SML-D12-MFG
pins: A ANODE, C CATHODE

## T491C476K016AT
designator C?, comment 47uF/16V
47 µF Molded Tantalum Capacitors 16 V 2312 (6032 Metric) 1.2Ohm; Manufacturer: KEMET; Manufacturer Part Number: T491C476K016AT; Capacitance: 47uF; Dissipation Factor: 6%; ESR (Equivalent Series Resistance): 1.2R; Leakage Current: 7.5uA; Life (Hours): 2000Hour; Polarity: Polar; Ripple Current: 303mA; Tolerance: 20%; Voltage: 6V; Voltage Rating: 16V; Case Code (Imperial): 2312; Case Code (Metric): 6032; Case/Package: Molded; Category: Tantalum Capacitors; Depth: 3.2mm; Dielectric Material: Tantalum; Failure Rate: 0.001%; Features: General Purpose; Height: 2.5mm; Height - Seated (Max): 0.11inch; Lead Free: Lead Free; Length: 6mm; Max Operating Temperature: 125°C; Min Operating Temperature: -55°C; Mount: Surface Mount; Number of Pins: 2; Package Quantity: 1; Packaging: Tape and Reel; Radiation Hardening: No; REACH SVHC: No SVHC; RoHS Compliant: Yes; Termination: SMD/SMT; Voltage Rating (DC): 16V; Width: 3.2mm; ComponentLink1URL: https://datasheet.ciiva.com/6228/kem-t2005-t491-6228421.pdf?src-supplier=Digi-Key; ComponentLink1Description: https://datasheet.ciiva.com/6228/kem-t2005-t491-6228421.pdf?src-supplier=Digi-Key
footprint FP-T491C476K016AT-MFG
pins: 1 C, 2 A
text: +

## TC4427AEOA
designator U?
GATE DRIVER LOW-SIDE 8SOIC
footprint D-8 PIN 1.27pitch (Pitch 1.27mm)
pins: 1 NC, 2 IN A, 3 GND, 4 IN B, 5 OUTB, 6 VDD, 7 OUTA, 8 NC

## Test_Point
designator TP?  (value not drawn)
footprint Test_Point
pins: 1

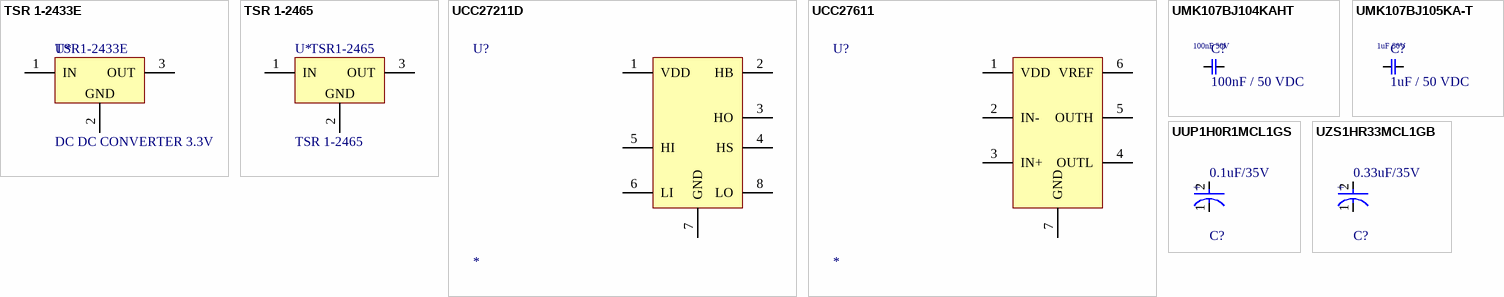
[diagram p2: symbols TSR 1-2433E to UZS1HR33MCL1GB]

## TSR 1-2433E
designator U*, comment DC DC CONVERTER 3.3V  Manufacturer Part Number: TSR1-2433E
Non-Isolated PoL Module DC DC Converter 1 Output 3.3V 1A 6V - 36V Input; Manufacturer: Traco Power; Supplier 1: Digi-Key; Supplier 2: Mouser; Supplier Part Number 1: 1951-TSR1-2433E-ND; Supplier Part Number 2: 495-TSR1-2433E
footprint TRACO-SIP-3_V (SIP, 3-Leads, Body 11.7x7.6mm, Pitch 2.54mm)
pins: 1 IN (power), 2 GND (power), 3 OUT (power)

## TSR 1-2465
designator U*  Manufacturer Part Number: TSR1-2465
Linear Regulator Replacement DC DC Converter 1 Output 6.5V 1A 9V - 36V Input; Manufacturer: Traco Power; Efficiency: 87%; Isolation: Isolated; Max Input Voltage (DC): 32V; Max Output Power: 6.5W; Number of Outputs: 1; Width: 7.6mm; Case/Package: SIP; Category: Voltage Regulators - Switching; Depth: 7.6mm; Height: 10.2mm; Length: 11.7mm; Max Input Voltage: 36V; Max Operating Temperature: 85°C; Max Output Current: 1A; Min Input Voltage: 9V; Min Input Voltage (DC): 9V; Min Operating Temperature: -40°C; Mount: Through Hole; Nominal Output Voltage: 6.5V; Number of Pins: 3; Output Current: 1A; Output Voltage: 6.5V; Power Rating: 6.5W; Radiation Hardening: No; REACH SVHC: No SVHC; RoHS Compliant: Yes; Series: TSR 1; Weight: 1.9g; ComponentLink1URL: https://datasheet.ciiva.com/26336/156674-da-01-en-dc-dc-wandler-1a-tsr-1-2465-26336400.pdf?src-supplier=Conrad; ComponentLink1Description: https://datasheet.ciiva.com/26336/156674-da-01-en-dc-dc-wandler-1a-tsr-1-2465-26336400.pdf?src-supplier=Conrad; ComponentLink2URL: https://datasheet.ciiva.com/3355/tsr1-eng-tds-3355821.pdf?src-supplier=Distrelec; ComponentLink2Description: https://datasheet.ciiva.com/3355/tsr1-eng-tds-3355821.pdf?src-supplier=Distrelec; Supplier 1: Digi-Key; Supplier 2: Mouser; Supplier Part Number 1: 1951-2611-ND; Supplier Part Number 2: 495-TSR-1-2465
footprint TRACO-SIP-3_V (SIP, 3-Leads, Body 11.7x7.6mm, Pitch 2.54mm)
pins: 1 IN (power), 2 GND (power), 3 OUT (power)

## UCC27211D
designator U?
Half-Bridge Gate Driver IC Non-Inverting 8-SOIC; Manufacturer: Texas Instruments; Manufacturer Part Number: UCC27211D; Fall Time: 400ns; Max Output Current: 4A; Max Supply Current: 4.3mA; Max Supply Voltage: 17V; Min Supply Voltage: 8V; Number of Channels: 2; Operating Supply Voltage: 12V; Propagation Delay: 40ns; Rise Time: 600ns; Case/Package: SOIC; Category: Gate Drivers; Height: 1.5mm; Lead Free: Lead Free; Length: 5mm; Max Operating Temperature: 140°C; Min Operating Temperature: -40°C; Mount: Surface Mount; Nominal Supply Current: 4A; Number of Drivers: 2; Number of Outputs: 2; Number of Pins: 8; Output Current: 4A; Package Quantity: 75; Packaging: Rail/Tube; Radiation Hardening: No; REACH SVHC: No SVHC; RoHS Compliant: Yes; Series: -; Supply Current: 4A; Turn-On Delay Time: 40ns; Width: 4mm; ComponentLink1URL: https://datasheet.ciiva.com/1951/ucc27210-1951181.pdf?src-supplier=Digi-Key; ComponentLink1Description: https://datasheet.ciiva.com/1951/ucc27210-1951181.pdf?src-supplier=Digi-Key
footprint D-8 PIN 1.27pitch (Pitch 1.27mm)
pins: 1 VDD, 2 HB, 3 HO, 4 HS, 5 HI, 6 LI, 7 GND, 8 LO

## UCC27611
designator U?
High speed  Gan FETs driver; Manufacturer: Texas Instruments; Manufacturer Part Number: UCC27211D; Fall Time: 400ns; Max Output Current: 4A; Max Supply Current: 4.3mA; Max Supply Voltage: 17V; Min Supply Voltage: 8V; Number of Channels: 2; Operating Supply Voltage: 12V; Propagation Delay: 40ns; Rise Time: 600ns; Case/Package: SOIC; Category: Gate Drivers; Height: 1.5mm; Lead Free: Lead Free; Length: 5mm; Max Operating Temperature: 140°C; Min Operating Temperature: -40°C; Mount: Surface Mount; Nominal Supply Current: 4A; Number of Drivers: 2; Number of Outputs: 2; Number of Pins: 8; Output Current: 4A; Package Quantity: 75; Packaging: Rail/Tube; Radiation Hardening: No; REACH SVHC: No SVHC; RoHS Compliant: Yes; Series: -; Supply Current: 4A; Turn-On Delay Time: 40ns; Width: 4mm; ComponentLink1URL: https://datasheet.ciiva.com/1951/ucc27210-1951181.pdf?src-supplier=Digi-Key; ComponentLink1Description: https://datasheet.ciiva.com/1951/ucc27210-1951181.pdf?src-supplier=Digi-Key
footprint WSON_DRV_6 (Pitch 0.65mm)
pins: 1 VDD, 2 IN-, 3 IN+, 4 OUTL, 5 OUTH, 6 VREF, 7 GND

## UMK107BJ104KAHT
designator C?, comment 100nF / 50 VDC  Voltage Rating: 50V  Capacitance: 100nF
0.1 µF 50V  ±10% Ceramic Capacitor X5R 0603 (1608 Metric); Manufacturer: Taiyo Yuden; Manufacturer Part Number: UMK107BJ104KAHT; Case Code (Imperial): 0603; Case Code (Metric): 1608; Case/Package: 0603; Category: Ceramic Capacitors; Dielectric: X5R; Halogen Free: Halogen Free; Height: 0.8mm; Lead Free: Lead Free; Length: 0.063inch; Max Operating Temperature: 85°C; Min Operating Temperature: -55°C; Mount: Surface Mount; Package Quantity: 4000; Packaging: Tape and Reel; Ratings: AEC-Q200; RoHS Compliant: Yes; Termination: SMD/SMT; Thickness: 0.035inch; Tolerance: 10%; Voltage Rating (DC): 50V; Width: 0.031inch; ComponentLink1URL: https://datasheet.ciiva.com/18697/mlcc01-hq-e-18697861.pdf?src-supplier=Digi-Key; ComponentLink1Description: https://datasheet.ciiva.com/18697/mlcc01-hq-e-18697861.pdf?src-supplier=Digi-Key; Supplier 1: Mouser; Supplier 2: Digi-Key; Supplier Part Number 1: 963-UMK107BJ104KAHT; Supplier Part Number 2: 587-3504-6-ND
footprint FP-0603-UMK107BJ104KAHT-IPC_B
pins: 1 G, 2 G

## UMK107BJ105KA-T
designator C?, comment 1uF / 50 VDC  Capacitance: 1uF  Voltage Rating: 50V
1 µF ±10% 50V Ceramic Capacitor X5R 0603 (1608 Metric); Manufacturer: Taiyo Yuden; Manufacturer Part Number: UMK107BJ105KA-T; Case Code (Imperial): 0603; Case Code (Metric): 1608; Case/Package: 0603; Category: Ceramic Capacitors; Construction: Flat; Contact Plating: Nickel; Depth: 0.8mm; Dielectric: X5R; Halogen Free: Halogen Free; Height: 0.8mm; Length: 1.6mm; Max Operating Temperature: 85°C; Min Operating Temperature: -55°C; Mount: Surface Mount; Number of Pins: 2; Package Quantity: 1; Packaging: Tape and Reel; Radiation Hardening: No; REACH SVHC: Unknown; RoHS Compliant: Yes; Series: M; Termination: SMD/SMT; Thickness: 0.035inch; Tolerance: 10%; Voltage Rating (DC): 50V; Width: 0.031inch; ComponentLink1URL: https://datasheet.ciiva.com/134/umk107bj105ka-t-ss-134740.pdf?src-supplier=Digi-Key; ComponentLink1Description: https://datasheet.ciiva.com/134/umk107bj105ka-t-ss-134740.pdf?src-supplier=Digi-Key; Supplier 1: Digi-Key; Supplier 2: Mouser; Supplier Part Number 1: 587-2400-1-ND; Supplier Part Number 2: 963-UMK107BJ105KA-T
footprint FP-0603-UMK107BJ104KAHT-IPC_B
pins: 1 G, 2 G

## UUP1H0R1MCL1GS
designator C?, comment 0.1uF/35V
0.1µF 50V Aluminum Electrolytic Capacitors Radial, Can - SMD  1000 Hrs @ 105°C; Life (Hours): 1000Hour; Leakage Current: 10uA; Ripple Current: 1mA; Tolerance: 20%; Dissipation Factor: 0.15%; Capacitance: 100nF; Radiation Hardening: No; Max Operating Temperature: 105°C; Voltage Rating: 50V; Package Quantity: 2000; Diameter: 4mm; Voltage Rating (DC): 50V; Mount: Surface Mount; Packaging: Tape and Reel; Termination: SMD/SMT; Min Operating Temperature: 1000°C; Length: 5.8mm; Height: 5.8mm; Case/Package: Radial; Height - Seated (Max): 0.157inch
footprint FP-UUP1H0R1MCL1GS-MFG
pins: 1 C, 2 A
text: +

## UZS1HR33MCL1GB
designator C?, comment 0.33uF/35V
0.33µF 50V Aluminum Electrolytic Capacitors Radial, Can - SMD  2000 Hrs @ 85°C; Manufacturer: Nichicon; Manufacturer Part Number: UZS1HR33MCL1GB; Capacitance: 330nF; Leakage Current: 3uA; Life (Hours): 2000Hour; Ripple Current: 2.8mA; Tolerance: 20%; Voltage Rating (DC): 50V; Case/Package: Radial; Category: Aluminum Electrolytic Capacitors; Features: General Purpose; Height - Seated (Max): 0.157inch; Length: 4.5mm; Max Operating Temperature: 85°C; Min Operating Temperature: -40°C; Mount: Surface Mount; Package Quantity: 2000; Packaging: Tape and Reel; RoHS Compliant: Yes; Series: ZS; Termination: SMD/SMT; Voltage Rating: 50V
footprint FP-UUP1H0R1MCL1GS-MFG
pins: 1 C, 2 A
text: +